# Altium footprint library SB2232_v02.PcbLib: 13 footprints
Each footprint in its own frame and in the unit in brackets; x right, y up, seen from the top. Pads: shape width x height; smd on the part's side, far side on the other; paste and mask are expansions set on the pad; w line width, h text height; cw(c..) or ccw(c..) is an arc to the next point about the centre after c.
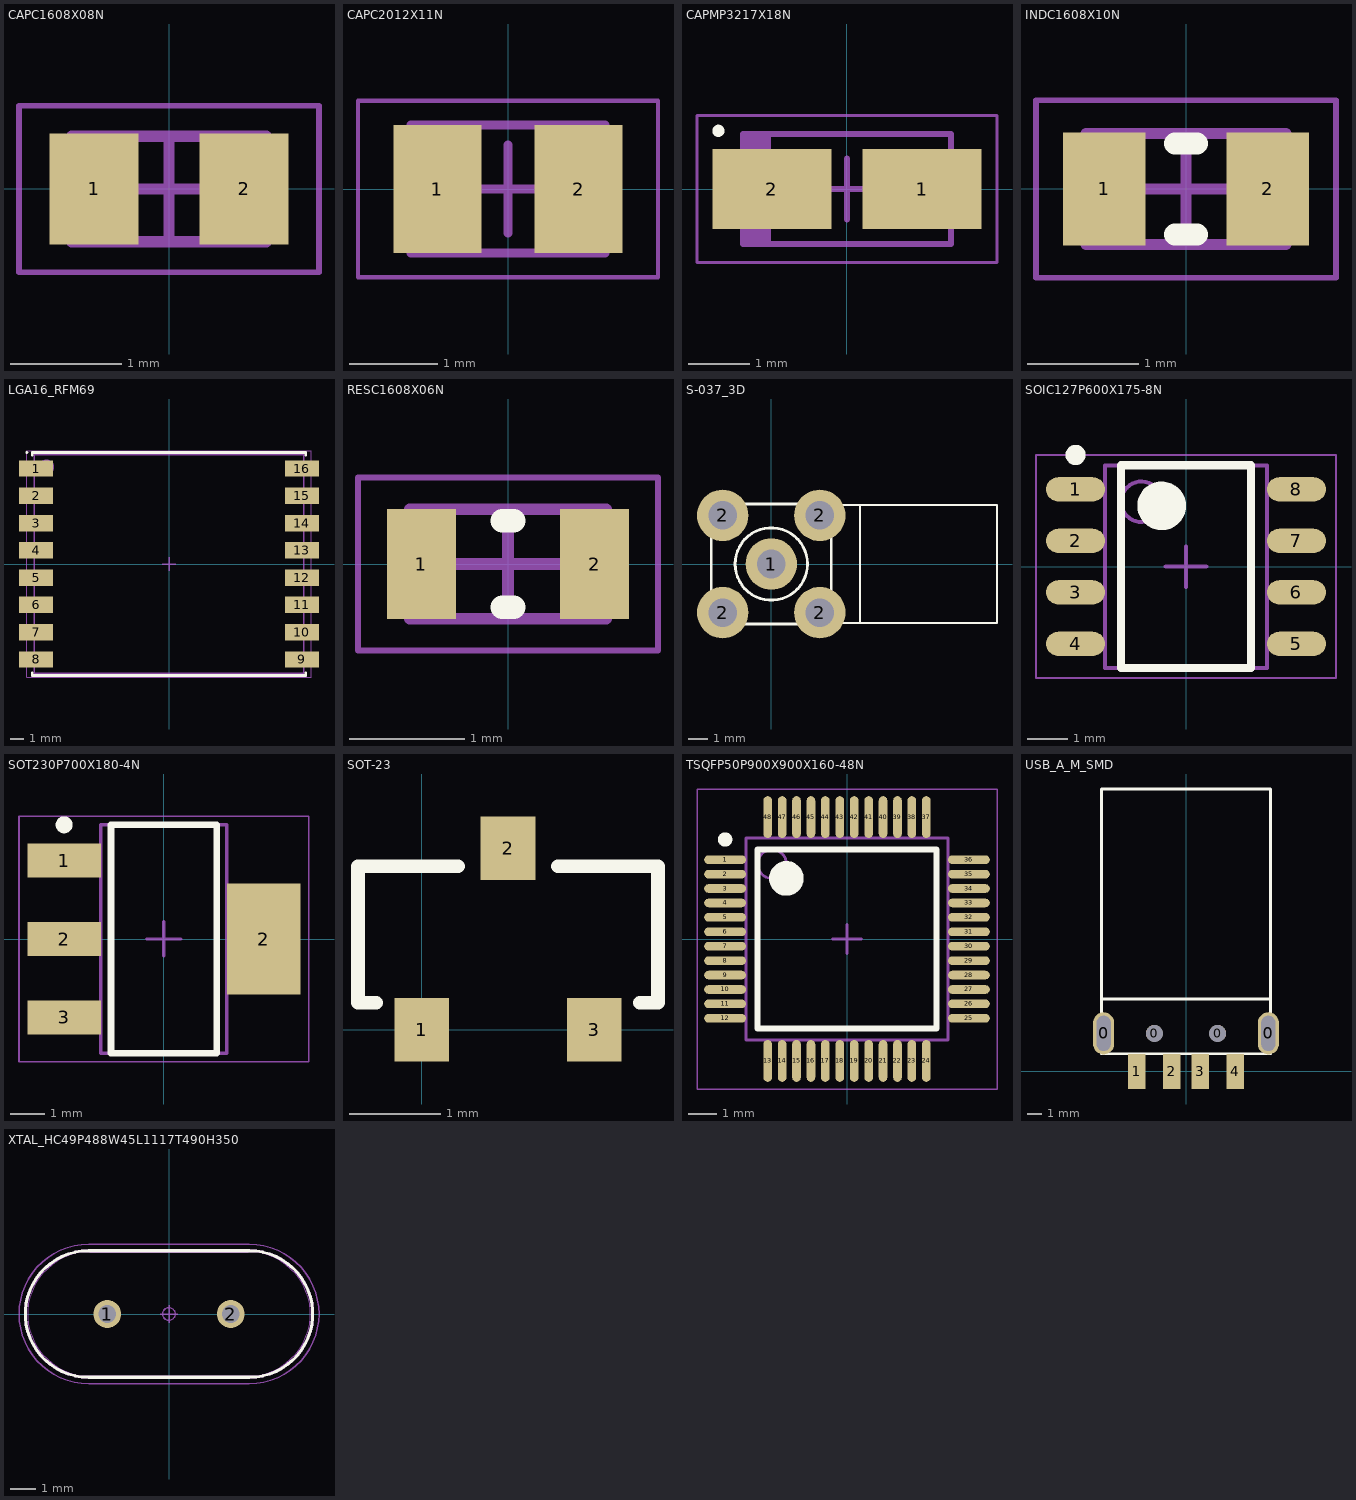
[diagram p0: the footprints below, top view; thin cyan lines are the x and y axes]

## CAPC1608X08N [mm] "Chip Capacitor, 2-Leads, Body 1,60x0,80mm, IPC Medium Density"
height 0.85
pads (2):
  rect 0.8x1 smd: 1(-0.675,0) 2(0.675,0)
Mechanical 13:
  lines w0.1: -0.875,-0.475 0.875,-0.475 0.875,0.475 -0.875,0.475 -0.875,-0.475
Mechanical 15:
  lines w0.05: -1.35,-0.75 1.35,-0.75 1.35,0.75 -1.35,0.75 -1.35,-0.75
  lines w0.1: -0.475,0 0.475,0 ; 0,-0.475 0,0.475
3D body: height 0.85, standoff 0, extent 0.525,-0.475 0.875,0.475
3D body: height 0.85, standoff 0, extent -0.875,-0.475 -0.525,0.475
3D body: height 0.85, standoff 0, extent -0.525,-0.475 0.525,0.475

## CAPC2012X11N [mm] "Chip Capacitor, 2-Leads, Body 2,00x1,25mm, IPC Medium Density"
height 1.1
pads (2):
  rect 1x1.45 smd: 1(-0.8,0) 2(0.8,0)
Mechanical 13:
  lines w0.1: -1.1,-0.725 -1.1,0.725 1.1,0.725 1.1,-0.725 -1.1,-0.725
Mechanical 15:
  lines w0.05: -1.7,-1 -1.7,1 1.7,1 1.7,-1 -1.7,-1
  lines w0.1: -0.5,0 0.5,0 ; 0,-0.5 0,0.5
3D body: height 1.1, standoff 0, extent -0.6,-0.725 0.6,0.725
3D body: height 1.1, standoff 0, extent -1.1,-0.725 -0.6,0.725
3D body: height 1.1, standoff 0, extent 0.6,-0.725 1.1,0.725

## CAPMP3217X18N [mm] "Molded Capacitor, 2-Leads, Body 3,20x1,65mm, IPC Medium Density"
height 1.8
pads (2):
  rect 1.95x1.3 smd: 1(1.225,0) 2(-1.225,0)
Top Overlay:
  circle w0.1: c-2.1,0.95 r0.05
Mechanical 13:
  rectangle: -1.7,-0.9 -1.243,0.9
  lines w0.1: -1.7,-0.9 -1.7,0.9 1.7,0.9 1.7,-0.9 -1.7,-0.9
Mechanical 15:
  lines w0.05: -2.45,-1.2 -2.45,1.2 2.45,1.2 2.45,-1.2 -2.45,-1.2
  lines w0.1: -0.5,0 0.5,0 ; 0,-0.5 0,0.5
3D body: height 1.8, standoff 0, extent -1.7,-0.9 1.7,0.9

## INDC1608X10N [mm] "Chip Inductor, 2-Leads, Body 1,60x0,80mm, IPC Medium Density"
height 1
pads (2):
  rect 0.74x1.02 smd: 1(-0.735,0) 2(0.735,0)
Top Overlay:
  lines w0.2: -0.1,-0.41 0.1,-0.41 ; -0.1,0.41 0.1,0.41
Mechanical 13:
  lines w0.1: -0.9,-0.5 -0.9,0.5 0.9,0.5 0.9,-0.5 -0.9,-0.5
Mechanical 15:
  lines w0.05: -1.35,-0.8 -1.35,0.8 1.35,0.8 1.35,-0.8 -1.35,-0.8
  lines w0.1: -0.5,0 0.5,0 ; 0,-0.5 0,0.5
3D body "INDC1608X10N.step": height 1, standoff 0, extent -0.9,-0.5 0.9,0.5

## LGA16_RFM69 [mm] "LGA, 16-Leads, RFM69HW"
height 2
pads (16):
  rect 2.5x1.2 smd: 1(-9.75,7) 2(-9.75,5) 3(-9.75,3) 4(-9.75,1) 5(-9.75,-1) 6(-9.75,-3) 7(-9.75,-5) 8(-9.75,-7) 9(9.75,-7) 10(9.75,-5) 11(9.75,-3) 12(9.75,-1) 13(9.75,1) 14(9.75,3) 15(9.75,5) 16(9.75,7)
Top Overlay:
  circle w0.1: c-10.425,8.175 r0.05
  lines w0.2: -10.025,-8 -10.025,-8.175 10.025,-8.175 10.025,-8 ; -10.025,8 -10.025,8.175 10.025,8.175 10.025,8
Mechanical 13:
  circle w0.1: c-8.975,7.125 r0.5
  lines w0.1: -9.875,-8.025 9.875,-8.025 9.875,8.025 -9.875,8.025 -9.875,-8.025
Mechanical 15:
  lines w0.05: -10.435,-8.3 10.435,-8.3 10.435,8.3 -10.435,8.3 -10.435,-8.3
  lines w0.1: -0.5,0 0.5,0 ; 0,-0.5 0,0.5
3D body "LGA16_RFM69.step": height 2, standoff 0.1, extent -9.875,-8.025 9.875,8.025

## RESC1608X06N [mm] "Chip Resistor, 2-Leads, Body 1,60x0,82mm, IPC Medium Density"
height 0.6
pads (2):
  rect 0.6x0.95 smd: 1(-0.75,0) 2(0.75,0)
Top Overlay:
  lines w0.2: -0.05,-0.375 0.05,-0.375 ; -0.05,0.375 0.05,0.375
Mechanical 13:
  lines w0.1: -0.85,-0.475 0.85,-0.475 0.85,0.475 -0.85,0.475 -0.85,-0.475
Mechanical 15:
  lines w0.05: -1.3,-0.75 1.3,-0.75 1.3,0.75 -1.3,0.75 -1.3,-0.75
  lines w0.1: -0.475,0 0.475,0 ; 0,-0.475 0,0.475
3D body: height 0.6, standoff 0, extent 0.65,-0.475 0.85,0.475
3D body: height 0.6, standoff 0, extent -0.85,-0.475 -0.65,0.475
3D body: height 0.6, standoff 0, extent -0.65,-0.475 0.65,0.475

## S-037_3D [mm]
pads (5):
  round 2.7 hole 1.5: 1(0,0) 2(-2.55,-2.55) 2(-2.55,2.55) 2(2.55,-2.55) 2(2.55,2.55)
Top Overlay:
  circle w0.15: c0,0 r1.9
  lines w0.1: 3.15,-3.1 4.65,-3.1 ; 3.15,3.1 4.65,3.1 ; 4.65,-3.1 11.85,-3.1 11.85,3.1 4.65,3.1 ; 4.65,-3.1 4.65,3.1
  lines w0.15: -3.15,-3.15 3.15,-3.15 3.15,3.15 -3.15,3.15 -3.15,-3.15
3D body "7595.stp": height 11.5, standoff -2.16, extent -2.805,-3.405 9.48,2.905

## SOIC127P600X175-8N [mm] "SOIC, 8-Leads, Body 4,90x3,90mm, Pitch 1,27mm, IPC Medium Density"
height 1.75
pads (8):
  oval 1.45x0.6 smd: 1(-2.725,1.905) 2(-2.725,0.635) 3(-2.725,-0.635) 4(-2.725,-1.905) 5(2.725,-1.905) 6(2.725,-0.635) 7(2.725,0.635) 8(2.725,1.905)
Top Overlay:
  circle w0.25: c-2.725,2.755 r0.125
  circle w0.6: c-0.6,1.5 r0.3
  lines w0.2: -1.6,-2.5 -1.6,2.5 1.6,2.5 1.6,-2.5 -1.6,-2.5
Mechanical 13:
  circle w0.1: c-1.1,1.6 r0.5
  lines w0.1: -2,-2.5 -2,2.5 2,2.5 2,-2.5 -2,-2.5
Mechanical 15:
  lines w0.05: -3.7,-2.75 -3.7,2.75 3.7,2.75 3.7,-2.75 -3.7,-2.75
  lines w0.1: -0.5,0 0.5,0 ; 0,-0.5 0,0.5
3D body "SOIC127P600X175-8N.step": height 1.75, standoff 0, extent -3,-2.5 3,2.5

## SOT230P700X180-4N [mm] "SOT223, 4-Leads, Body 6,50x7,00mm (avg), Pitch 2,30mm, IPC Medium Density"
height 1.8
pads (4):
  rect 2.15x1 smd: 1(-2.925,2.3) 2(-2.925,0) 3(-2.925,-2.3)
  rect 2.15x3.25 smd: 2(2.925,0)
Top Overlay:
  circle w0.25: c-2.925,3.35 r0.125
  lines w0.2: -1.55,-3.35 1.55,-3.35 1.55,3.35 -1.55,3.35 -1.55,-3.35
Mechanical 13:
  lines w0.1: -1.85,-3.35 1.85,-3.35 1.85,3.35 -1.85,3.35 -1.85,-3.35
Mechanical 15:
  lines w0.05: -4.25,-3.6 4.25,-3.6 4.25,3.6 -4.25,3.6 -4.25,-3.6
  lines w0.1: -0.5,0 0.5,0 ; 0,-0.5 0,0.5
3D body: height 1.8, standoff 0.02, extent -1.85,-3.35 1.85,3.35

## SOT-23 [mm]
pads (3):
  rect 0.6x0.7 smd: 1(0,0) 2(0.95,2) 3(1.9,0)
Top Overlay:
  lines w0.15: -0.5,0.3 -0.7,0.3 -0.7,1.8 0.4,1.8 ; 1.5,1.8 2.6,1.8 2.6,0.3 2.4,0.3

## TSQFP50P900X900X160-48N [mm] "TSQFP, 48-Leads, Body 7,00x7,00mm, Pitch 0,50mm, IPC Medium Density"
height 1.6
pads (48):
  oval 1.45x0.3 smd: 1(-4.225,2.75) 2(-4.225,2.25) 3(-4.225,1.75) 4(-4.225,1.25) 5(-4.225,0.75) 6(-4.225,0.25) 7(-4.225,-0.25) 8(-4.225,-0.75) 9(-4.225,-1.25) 10(-4.225,-1.75) 11(-4.225,-2.25) 12(-4.225,-2.75) 25(4.225,-2.75) 26(4.225,-2.25) 27(4.225,-1.75) 28(4.225,-1.25) 29(4.225,-0.75) 30(4.225,-0.25) 31(4.225,0.25) 32(4.225,0.75) 33(4.225,1.25) 34(4.225,1.75) 35(4.225,2.25) 36(4.225,2.75)
  oval 0.3x1.45 smd: 13(-2.75,-4.225) 14(-2.25,-4.225) 15(-1.75,-4.225) 16(-1.25,-4.225) 17(-0.75,-4.225) 18(-0.25,-4.225) 19(0.25,-4.225) 20(0.75,-4.225) 21(1.25,-4.225) 22(1.75,-4.225) 23(2.25,-4.225) 24(2.75,-4.225) 37(2.75,4.225) 38(2.25,4.225) 39(1.75,4.225) 40(1.25,4.225) 41(0.75,4.225) 42(0.25,4.225) 43(-0.25,4.225) 44(-0.75,4.225) 45(-1.25,4.225) 46(-1.75,4.225) 47(-2.25,4.225) 48(-2.75,4.225)
Top Overlay:
  circle w0.6: c-2.1,2.1 r0.3
  circle w0.25: c-4.225,3.45 r0.125
  lines w0.2: -3.1,-3.1 3.1,-3.1 3.1,3.1 -3.1,3.1 -3.1,-3.1
Mechanical 13:
  circle w0.1: c-2.6,2.6 r0.5
  lines w0.1: -3.5,-3.5 3.5,-3.5 3.5,3.5 -3.5,3.5 -3.5,-3.5
Mechanical 15:
  lines w0.05: -5.2,-5.2 5.2,-5.2 5.2,5.2 -5.2,5.2 -5.2,-5.2
  lines w0.1: -0.5,0 0.5,0 ; 0,-0.5 0,0.5
3D body: height 1.6, standoff 0.05, extent -3.5,-3.5 3.5,3.5

## USB_A_M_SMD [mm] "usb male smd mount"
pads (8):
  oval 1.5x3 hole 1 slot 2.5 at 90 deg: 0(-5.85,2.7) 0(5.85,2.7)
  round 1.2 hole 1.2 unplated mask+0: 0(-2.25,2.7) 0(2.25,2.7)
  rect 1.25x2.5 smd: 1(-3.5,0) 2(-1,0) 3(1,0) 4(3.5,0)
Top Overlay:
  lines w0.2: -6,5.15 6,5.15 ; -6,1.25 -6,20.05 6,20.05 6,1.25 -6,1.25

## XTAL_HC49P488W45L1117T490H350 [mm] "Crystal, HC-49; 4.88 mm C X 0.45 mm W 11.175 mm L X 4.90 mm T X 3.50 mm H body"
height 3.5
pads (2):
  round 1.1 hole 0.7 paste-1.1: 1(-2.44,0) 2(2.44,0)
Top Overlay:
  lines w0.12: -3.18,-2.5 cw(c-3.18,0) -3.18,2.5 3.18,2.5 cw(c3.18,0) 3.18,-2.5 -3.18,-2.5
Mechanical 11:
  lines w0.12: -3.18,-2.5 cw(c-3.18,0) -3.18,2.5 3.18,2.5 cw(c3.18,0) 3.18,-2.5 -3.18,-2.5
Mechanical 12:
  circle w0.025: c2.44,0 r0.25
  circle w0.025: c-2.44,0 r0.25
  lines w0.025: -3.137,-2.45 cw(c-3.137,0) -3.137,2.45 3.137,2.45 cw(c3.137,0) 3.137,-2.45 -3.137,-2.45
Mechanical 15:
  circle w0.05: c0,0 r0.25
  lines w0.05: -0.35,0 0.35,0 ; 0,-0.35 0,0.35 ; -3.18,-2.75 cw(c-3.18,0) -3.18,2.75 3.18,2.75 cw(c3.18,0) 3.18,-2.75 -3.18,-2.75
3D body "XTAL_HC49P488W45L1117T490H350.STEP": height 3.5, standoff -2, extent -5.587,-2.45 5.587,2.45